# EAGLE library part 69132211000_XX (library dadamachines)
Terminal block - 9 Pins;
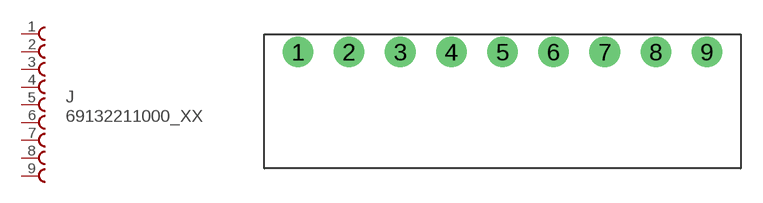
[diagram p25: symbol with the pads of 69132211000_XX; footprint 69132211000_XX]

Designator prefix J

## 69132211000_XX  [69132211000_XX]
1  1  pas
2  2  pas
3  3  pas
4  4  pas
5  5  pas
6  6  pas
7  7  pas
8  8  pas
9  9  pas

## Footprint 69132211000_XX (pad centres in mm)
WR-TBL Terminal block - serie 3221 3,50mm - PCB Horizontal - 08;
drill 1.4: 1 -14,0; 2 -10.5,0; 3 -7,0; 4 -3.5,0; 5 0,0; 6 3.5,0; 7 7,0; 8 10.5,0; 9 14,0